# Altium footprint library PCB.PcbLib: 224 footprints (part 9 of 14)
Each footprint in its own frame and in the unit in brackets; x right, y up, seen from the top. Pads: shape width x height; smd on the part's side, far side on the other; paste and mask are expansions set on the pad; w line width, h text height; cw(c..) or ccw(c..) is an arc to the next point about the centre after c.
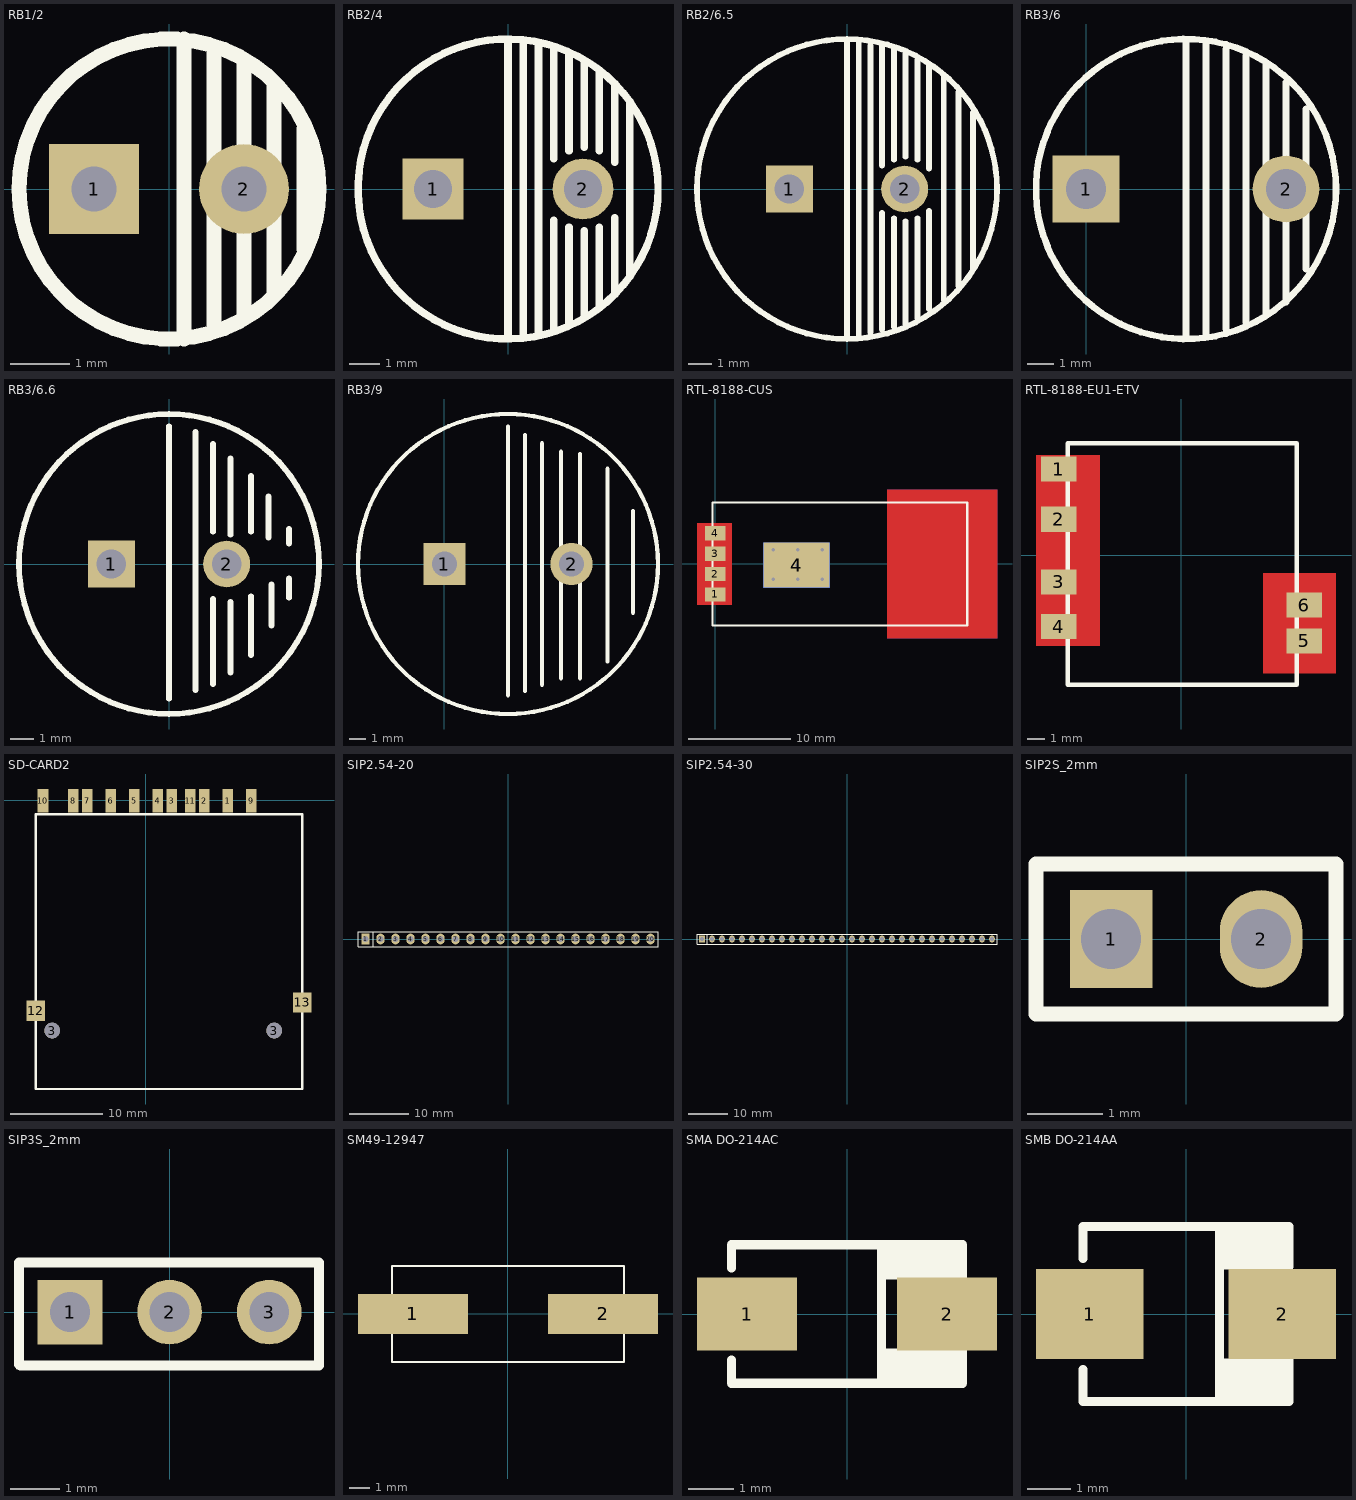
[diagram p8: the footprints below, top view; thin cyan lines are the x and y axes]

## RB1/2 [mil]
pads (2):
  rect 60x60 hole 30: 1(-50,0)
  round 60 hole 30: 2(50,0)
Top Overlay:
  circle w10: c0,0 r100
  lines w10: 10,-100 10,100 ; 30,-90 30,90 ; 50,-85 50,85 ; 70,-70 70,70 ; 90,-40 90,40

## RB2/4 [mil]
pads (2):
  rect 80x80 hole 50: 1(-98.42,0)
  round 80 hole 50: 2(98.42,0)
Top Overlay:
  circle w9.84: c0,0 r196.85
  lines w10: 0,-196 0,196 ; 20,-195 20,194 ; 40,-190 40,191 ; 60,-186 60,-77.5 60,-41.25 ; 60,40 60,67.5 60,185 ; 80,-179 80,-50 ; 80,50 80,179 ; 100,-167 100,-55 ; 100,55 100,168 ; 120,-155 120,-50 ; 120,50 120,153 ; 140,-137 140,-37.5 ; 140,35 140,136 ; 160,-112 160,112
Mechanical 1:
  circle w0.79: c0,0 r196.85

## RB2/6.5 [mil]
pads (2):
  rect 80x80 hole 50: 1(-98.42,0)
  round 80 hole 50: 2(98.42,0)
Top Overlay:
  circle w9.84: c0,0 r255.91
  lines w10: 0,-250 0,250 ; 20,-250 20,250 ; 40,-245 40,245 ; 60,-240 60,-77.5 60,-41.25 ; 60,40 60,67.5 60,245 ; 80,-235 80,-50 ; 80,50 80,240 ; 100,-230 100,-55 ; 100,55 100,230 ; 120,-220 120,-50 ; 120,50 120,220 ; 140,-205 140,-37.5 ; 140,35 140,210 ; 165,-190 165,195 ; 190,-165 190,165 ; 215,-135 215,130
Mechanical 1:
  circle w0.79: c0,0 r255.91

## RB3/6 [mil]
pads (2):
  rect 100x100 hole 60: 1(0,0)
  round 100 hole 60: 2(300,0)
Top Overlay:
  circle w9.84: c150,0 r225
  lines w10: 150,-220 150,220 ; 180,-220 180,220 ; 210,-210 210,200 210,210 ; 240,-200 240,200 ; 270,-190 270,190 ; 300,-170 300,160 ; 330,-120 330,120

## RB3/6.6 [mil]
pads (2):
  rect 80x80 hole 50: 1(-98.42,0)
  round 80 hole 50: 2(98.42,0)
Top Overlay:
  circle w9.84: c0,0 r255.91
  lines w10: 0,-230 0,235 ; 45,-215 45,225 ; 75,-205 75,-60 ; 75,55 75,205 ; 105,-185 105,-65 ; 105,50 105,180 ; 140,-155 140,-55 ; 140,55 140,150 ; 170,45 170,115 ; 175,-105 175,-35 ; 205,-57.5 205,-25 ; 205,35 205,60
Mechanical 1:
  circle w0.79: c0,0 r255.91

## RB3/9 [mil]
pads (2):
  rect 100x100 hole 60: 1(0,0)
  round 100 hole 60: 2(300,0)
Top Overlay:
  circle w9.84: c150,0 r354.33
  lines w10: 150,-310 150,325 ; 190,-300 190,305 ; 230,-285 230,285 ; 275,-270 275,265 ; 320,-270 320,260 ; 385,-230 385,225 ; 445,-115 445,125

## RTL-8188-CUS [mm]
pads (13):
  rect 2x1.4 smd: 1(0,-3) 2(0,-1) 3(0,1) 4(0,3)
  round 0.5 hole 0.35: 4(5.715,-1.524) 4(5.715,1.397) 4(8,-0.127) 4(8.128,-1.524) 4(8.128,1.397) 4(10.541,-1.524) 4(10.541,1.397)
  rect 6.5x4.4 smd: 4(8,-0.127)
  rect 6.5x4.4 smd far side: 4(8,-0.127)
Top Layer:
  pour cut-out: 16.891,7.287 27.686,7.287 27.686,-7.318 16.891,-7.318
  pour cut-out: -1.778,3.985 1.651,3.985 1.651,-4.016 -1.778,-4.016
Bottom Layer:
  pour cut-out: 16.891,7.287 27.686,7.287 27.686,-7.318 16.891,-7.318
Top Overlay:
  lines w0.2: -0.254,-6.048 24.765,-6.048 24.765,6.017 -0.254,6.017 -0.254,-6.048

## RTL-8188-EU1-ETV [mm]
pads (6):
  rect 2x1.4 smd: 1(-6.858,4.8) 2(-6.858,2) 3(-6.858,-1.5) 4(-6.858,-4) 5(6.858,-4.8) 6(6.858,-2.8)
Top Layer:
  pour cut-out: -8.128,5.588 -4.572,5.588 -4.572,-5.08 -8.128,-5.08
  pour cut-out: 4.572,-1.016 4.572,-6.604 8.636,-6.604 8.636,-1.016
Top Overlay:
  lines w0.254: -6.35,-7.25 6.45,-7.25 6.45,6.25 -6.35,6.25 -6.35,-7.25

## SD-CARD2 [mm]
height 0.65
pads (15):
  rect 1.15x2.55 smd: 1(8.915,-0.051) 2(6.375,-0.051) 3(2.819,-0.051) 4(1.295,-0.051) 5(-1.245,-0.051) 6(-3.785,-0.051) 7(-6.325,-0.051) 8(-7.849,-0.051) 9(11.455,-0.051) 10(-11.151,-0.051) 11(4.851,-0.051)
  round 1.7 hole 1.7: 3(-10.16,-25.019) 3(13.97,-25.019)
  rect 2x2.2 smd: 12(-11.938,-22.86) 13(17.018,-21.971)
Top Overlay:
  lines w0.254: -11.938,-31.369 17.018,-31.369 17.018,-1.524 -11.938,-1.524 -11.938,-31.369

## SIP2.54-20 [mm]
pads (20):
  rect 1.4x1.8 hole 1: 1(-24.13,0)
  oval 1.4x1.8 hole 1: 2(-21.59,0) 3(-19.05,0) 4(-16.51,0) 5(-13.97,0) 6(-11.43,0) 7(-8.89,0) 8(-6.35,0) 9(-3.81,0) 10(-1.27,0) 11(1.27,0) 12(3.81,0) 13(6.35,0) 14(8.89,0) 15(11.43,0) 16(13.97,0) 17(16.51,0) 18(19.05,0) 19(21.59,0) 20(24.13,0)
Top Overlay:
  lines w0.2: -22.86,-1.27 -22.86,1.27 ; -25.4,-1.27 -25.4,1.27 25.4,1.27 25.4,-1.27 -25.4,-1.27

## SIP2.54-30 [mm]
pads (30):
  rect 1.4x1.8 hole 1: 1(-36.83,0)
  oval 1.4x1.8 hole 1: 2(-34.29,0) 3(-31.75,0) 4(-29.21,0) 5(-26.67,0) 6(-24.13,0) 7(-21.59,0) 8(-19.05,0) 9(-16.51,0) 10(-13.97,0) 11(-11.43,0) 12(-8.89,0) 13(-6.35,0) 14(-3.81,0) 15(-1.27,0) 16(1.27,0) 17(3.81,0) 18(6.35,0) 19(8.89,0) 20(11.43,0) 21(13.97,0) 22(16.51,0) 23(19.05,0) 24(21.59,0) 25(24.13,0) 26(26.67,0) 27(29.21,0) 28(31.75,0) 29(34.29,0) 30(36.83,0)
Top Overlay:
  lines w0.2: -35.56,-1.27 -35.56,1.27 ; -38.1,-1.27 38.1,-1.27 38.1,1.27 -38.1,1.27 -38.1,-1.27

## SIP2S_2mm [mm]
pads (2):
  rect 1.1x1.3 hole 0.8: 1(-1,0)
  oval 1.1x1.3 hole 0.8: 2(1,0)
Top Overlay:
  lines w0.203: -2,-1 2,-1 2,1 -2,1 -2,-1

## SIP3S_2mm [mm]
pads (3):
  rect 1.3x1.3 hole 0.8: 1(-2,0)
  round 1.3 hole 0.8: 2(0,0) 3(2,0)
Top Overlay:
  lines w0.2: -3.025,-1.05 -3.025,0 -3.025,1 3,1 3,-1.075 -3,-1.075 -3.025,-1.05

## SM49-12947 [mm]
pads (2):
  rect 5.5x2 smd: 1(-4.75,0) 2(4.75,0)
Top Overlay:
  lines w0.1: -5.8,-2.4 -5.8,2.4 5.8,2.4 5.8,-2.4 -5.8,-2.4

## SMA DO-214AC [mm]
height 3.94
pads (2):
  rect 2.2x1.6 smd: 1(-2.2,0) 2(2.2,0)
Top Overlay:
  rectangle: 0.762,-1.524 2.64,-0.762
  rectangle: 0.762,0.762 2.64,1.524
  lines w0.2: -2.54,-1.016 -2.54,-1.524 2.54,-1.524 2.54,-1.016 ; -2.54,1.016 -2.54,1.524 2.54,1.524 2.54,1.016 ; 0.762,-1.524 0.762,1.524

## SMB DO-214AA [mm]
height 3.94
pads (2):
  rect 2.45x2.05 smd: 1(-2.2,0) 2(2.2,0)
Top Overlay:
  region: 2.286,2 0.762,2 0.762,1.016 2.286,1.016
  region: 2.35,-1.016 0.762,-1.016 0.762,-2 2.35,-2
  lines w0.2: -2.35,-1.27 -2.35,-2 2.35,-2 2.35,-1.425 2.35,-1.016 ; -2.35,1.27 -2.35,2 2.35,2 2.35,1.425 2.35,1.08 ; 0.762,-2 0.762,2
Mechanical 13:
  lines w0.1: -2.35,-1.97 2.35,-1.97 ; -2.35,1.97 2.35,1.97